# Altium footprint library PCB1.PcbLib: 55 footprints (part 1 of 4)
Each footprint in its own frame and in the unit in brackets; x right, y up, seen from the top. Pads: shape width x height; smd on the part's side, far side on the other; paste and mask are expansions set on the pad; w line width, h text height; cw(c..) or ccw(c..) is an arc to the next point about the centre after c.
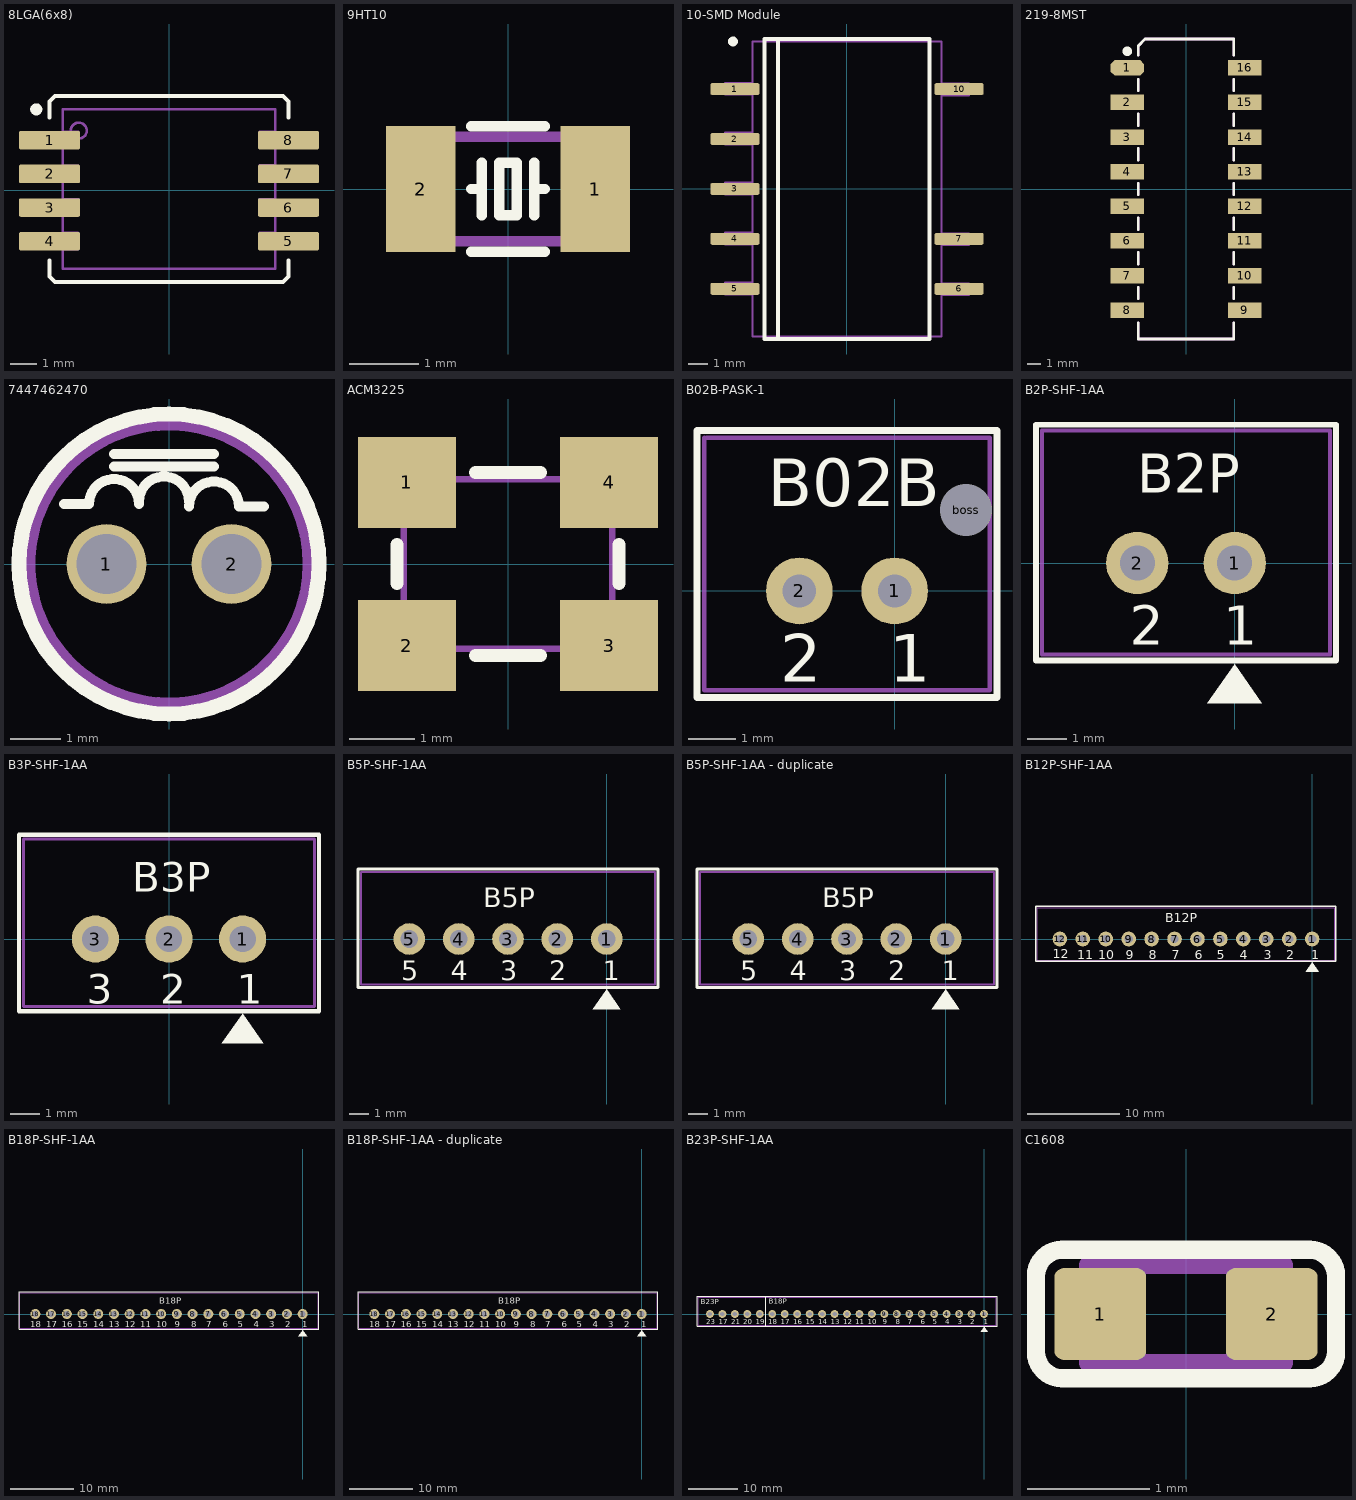
[diagram p0: the footprints below, top view; thin cyan lines are the x and y axes]

## 8LGA(6x8) [mm]
pads (8):
  rrect20% 2.3x0.7 smd mask+0.05: 1(-4.5,1.89) 2(-4.5,0.62) 3(-4.5,-0.65) 4(-4.5,-1.92) 5(4.5,-1.92) 6(4.5,-0.65) 7(4.5,0.62) 8(4.5,1.89)
Top Overlay:
  circle w0.254: c-5,3.05 r0.1
  lines w0.15: -4.5,-2.65 -4.5,-3.25 -4.3,-3.45 2.5,-3.45 4.3,-3.45 4.5,-3.25 4.5,-2.65 ; -4.5,2.75 -4.5,3.35 -4.3,3.55 2.5,3.55 4.3,3.55 4.5,3.35 4.5,2.75
Mechanical 5:
  circle w0.1: c-3.4,2.25 r0.3
  lines w0.1: -4,-2.21 -3.429,-2.21 -3.429,-1.61 -4,-1.61 ; -4,-0.94 -3.429,-0.94 -3.429,-0.34 -4,-0.34 ; -4,0.33 -3.429,0.33 -3.429,0.93 -4,0.93 ; -4,1.6 -3.429,1.6 -3.429,2.2 -4,2.2 ; 4,-2.2 3.429,-2.2 3.429,-1.6 4,-1.6 ; 4,-0.93 3.429,-0.93 3.429,-0.33 4,-0.33 ; 4,0.34 3.429,0.34 3.429,0.94 4,0.94 ; 4,1.61 3.429,1.61 3.429,2.21 4,2.21 ; -4,-2.95 4,-2.95 4,3.05 -4,3.05 -4,-2.95
  text ".designator" at -2.667,4.826 h1.5
Mechanical 13:
  lines w0.1: -4,-2.95 -4,3.05 4,3.05 4,-2.95 -4,-2.95

## 9HT10 [mm]
pads (2):
  rect 1x1.8 smd: 1(1.25,0) 2(-1.25,0)
Top Overlay:
  lines w0.15: -0.525,-0.9 0.525,-0.9 ; -0.525,0 -0.375,0 ; -0.525,0.9 0.525,0.9 ; -0.375,-0.375 -0.375,0.375 ; 0.375,-0.375 0.375,0.375 ; 0.375,0 0.525,0 ; -0.125,-0.375 0.125,-0.375 0.125,0.375 -0.125,0.375 -0.125,-0.375
Mechanical 5:
  lines w0.15: -1.6,-0.75 1.6,-0.75 1.6,0.75 -1.6,0.75 -1.6,-0.75
Mechanical 13:
  lines w0.15: -1.6,-0.75 -1.6,0.75 1.6,0.75 1.6,-0.75 -1.6,-0.75

## 10-SMD Module [mm]
pads (8):
  rrect30% 2.5x0.6 smd: 1(-5.7,5.08) 2(-5.7,2.54) 3(-5.7,0) 4(-5.7,-2.54) 5(-5.7,-5.08) 6(5.7,-5.08) 7(5.7,-2.54) 10(5.7,5.08)
Top Overlay:
  circle w0.25: c-5.8,7.5 r0.125
  lines w0.2: -4.2,-7.63 4.2,-7.63 ; -4.2,-7.62 -4.2,7.62 1.1,7.62 ; -3.5,-7.6 -3.5,7.6 ; 0.95,7.62 4.2,7.62 4.2,-7.62
Mechanical 5:
  lines w0.1: -4.8,-5.36 -6.2,-5.36 -6.2,-4.76 -4.8,-4.76 ; -4.8,-2.82 -6.2,-2.82 -6.2,-2.22 -4.8,-2.22 ; -4.8,-0.28 -6.2,-0.28 -6.2,0.32 -4.8,0.32 ; -4.8,2.26 -6.2,2.26 -6.2,2.86 -4.8,2.86 ; -4.8,4.8 -6.2,4.8 -6.2,5.4 -4.8,5.4 ; 4.8,-5.4 6.2,-5.4 6.2,-4.8 4.8,-4.8 ; 4.8,-2.86 6.2,-2.86 6.2,-2.26 4.8,-2.26 ; 4.8,4.76 6.2,4.76 6.2,5.36 4.8,5.36 ; -4.8,-7.5 -4.8,7.5 4.8,7.5 4.8,-7.5 -4.8,-7.5
  text ".designator" at -4.3,-1 h2
Mechanical 13:
  lines w0.1: -4.8,-7.5 4.8,-7.5 4.8,7.5 -4.8,7.5 -4.8,-7.5

## 219-8MST [mm]
pads (16):
  oct 2.44x1.13 smd: 1(-4.3,8.89)
  rect 2.44x1.13 smd: 2(-4.3,6.35) 3(-4.3,3.81) 4(-4.3,1.27) 5(-4.3,-1.27) 6(-4.3,-3.81) 7(-4.3,-6.35) 8(-4.3,-8.89) 9(4.3,-8.89) 10(4.3,-6.35) 11(4.3,-3.81) 12(4.3,-1.27) 13(4.3,1.27) 14(4.3,3.81) 15(4.3,6.35) 16(4.3,8.89)
Top Overlay:
  circle w0.5: c-4.3,10.1 r0.1
  lines w0.2: -3.5,-9.8 -3.5,-11 3.5,-11 3.5,-9.8 ; -3.5,-8.05 -3.5,-7.2 ; -3.5,-5.51 -3.5,-4.66 ; -3.5,-2.97 -3.5,-2.12 ; -3.5,-0.43 -3.5,0.42 ; -3.5,2.12 -3.5,2.97 ; -3.5,4.66 -3.5,5.51 ; -3.5,7.2 -3.5,8.05 ; -3.5,9.8 -3.5,10.5 -3,11 3.5,11 3.5,9.8 ; 3.5,-8.05 3.5,-7.2 ; 3.5,-5.51 3.5,-4.66 ; 3.5,-2.97 3.5,-2.12 ; 3.5,-0.43 3.5,0.42 ; 3.5,2.12 3.5,2.97 ; 3.5,4.66 3.5,5.51 ; 3.5,7.2 3.5,8.05
Mechanical 5:
  lines w0.2: -3.5,-9.8 -3.5,-11 3.5,-11 3.5,-9.8 ; -3.5,-8.05 -3.5,-7.2 ; -3.5,-5.51 -3.5,-4.66 ; -3.5,-2.97 -3.5,-2.12 ; -3.5,-0.43 -3.5,0.42 ; -3.5,2.12 -3.5,2.97 ; -3.5,4.66 -3.5,5.51 ; -3.5,7.2 -3.5,8.05 ; -3.5,9.8 -3.5,10.5 -3,11 3.5,11 3.5,9.8 ; 3.5,-8.05 3.5,-7.2 ; 3.5,-5.51 3.5,-4.66 ; 3.5,-2.97 3.5,-2.12 ; 3.5,-0.43 3.5,0.42 ; 3.5,2.12 3.5,2.97 ; 3.5,4.66 3.5,5.51 ; 3.5,7.2 3.5,8.05
Mechanical 6:
  lines w0.2: -3.5,-9.8 -3.5,-11 3.5,-11 3.5,-9.8 ; -3.5,-8.05 -3.5,-7.2 ; -3.5,-5.51 -3.5,-4.66 ; -3.5,-2.97 -3.5,-2.12 ; -3.5,-0.43 -3.5,0.42 ; -3.5,2.12 -3.5,2.97 ; -3.5,4.66 -3.5,5.51 ; -3.5,7.2 -3.5,8.05 ; -3.5,9.8 -3.5,10.5 -3,11 3.5,11 3.5,9.8 ; 3.5,-8.05 3.5,-7.2 ; 3.5,-5.51 3.5,-4.66 ; 3.5,-2.97 3.5,-2.12 ; 3.5,-0.43 3.5,0.42 ; 3.5,2.12 3.5,2.97 ; 3.5,4.66 3.5,5.51 ; 3.5,7.2 3.5,8.05
3D body "User Library-smt_dip_sw_8pos.step": height 6.05, standoff 0, extent -5.13,-11.075 5.15,11.025

## 7447462470 [mm]
pads (2):
  round 1.6 hole 1.2: 1(-1.25,0) 2(1.25,0)
Top Overlay:
  lines w0.2: -2.1,1.2 -1.6,1.2 cw(c-1.1,1.2) -0.6,1.2 ; -1.1,1.95 0.9,1.95 ; -1.1,2.2 0.9,2.2 ; -0.6,1.25 cw(c-0.1,1.25) 0.4,1.25 ; 0.4,1.15 cw(c0.9,1.15) 1.4,1.15 1.9,1.15
  lines w0.3: -3,0 ccw(c0,0) 3,0 ccw(c0,0) -3,0
Mechanical 5:
  circle w0.254: c0,0 r2.8

## ACM3225 [mm]
pads (4):
  rect 1.5x1.4 smd: 1(-1.55,1.25) 2(-1.55,-1.25) 3(1.55,-1.25) 4(1.55,1.25)
Top Overlay:
  lines w0.2: -1.7,-0.3 -1.7,0.3 ; -0.5,-1.4 0.5,-1.4 ; -0.5,1.4 0.5,1.4 ; 1.7,-0.3 1.7,0.3
Mechanical 5:
  lines w0.1: -1.6,-1.3 -1.6,1.3 1.6,1.3 1.6,-1.3 -1.6,-1.3
Mechanical 13:
  lines w0.1: -1.6,-1.3 1.6,-1.3 1.6,1.3 -1.6,1.3 -1.6,-1.3

## B02B-PASK-1 [mm]
pads (3):
  round 1.4 hole 0.7: 1(0,0) 2(-2,0)
  round 0.8 hole 1.1 unplated: boss(1.5,1.7)
Top Overlay:
  lines w0.15: -4.15,-2.234 -4.15,3.366 2.15,3.366 2.15,-2.234 -4.15,-2.234
  text "B02B" at -2.667,1.778 h1
  text "2" at -2.397,-1.905 h1
  text "1" at -0.111,-1.905 h1
Mechanical 5:
  lines w0.1: -4,3.216 -4,-2.084 2,-2.084 2,3.216 -3.95,3.216
Mechanical 13:
  lines w0.1: -4,3.216 -4,-2.084 2,-2.084 2,3.216 -3.95,3.216

## B2P-SHF-1AA [mm]
pads (2):
  round 1.6 hole 0.9: 1(0,0) 2(-2.5,0)
Top Overlay:
  region: 0,-2.6 0.7,-3.6 -0.7,-3.6
  lines w0.15: -5.1,-2.5 2.6,-2.5 2.6,3.55 -5.1,3.55 -5.1,-2.5
  text "B2P" at -2.5,1.8 h1
  text "2" at -2.7,-2.1 h1
  text "1" at -0.3,-2.1 h1
Mechanical 5:
  lines w0.1: -4.95,-2.35 2.45,-2.35 2.45,3.4 -4.95,3.4 -4.95,-2.35
Mechanical 13:
  lines w0.1: -4.95,-2.35 -4.95,3.4 2.45,3.4 2.45,-2.35 -4.95,-2.35

## B3P-SHF-1AA [mm]
pads (3):
  round 1.6 hole 0.9: 1(2.5,0) 2(0,0) 3(-2.5,0)
Top Overlay:
  region: 2.5,-2.55 3.2,-3.55 1.8,-3.55
  lines w0.15: -5.1,-2.45 -5.1,3.55 5.1,3.55 5.1,-2.45 -5.1,-2.45
  text "B3P" at -1.25,1.6 h1
  text "3" at -2.8,-2.2 h1
  text "1" at 2.3,-2.2 h1
  text "2" at -0.3,-2.2 h1
Mechanical 5:
  lines w0.1: -4.95,-2.3 4.95,-2.3 4.95,3.4 -4.95,3.4 -4.95,-2.3
Mechanical 13:
  lines w0.1: -4.95,-2.3 -4.95,3.4 4.95,3.4 4.95,-2.3 -4.95,-2.3

## B5P-SHF-1AA [mm]
pads (5):
  round 1.6 hole 0.9: 1(0,0) 2(-2.5,0) 3(-5,0) 4(-7.5,0) 5(-10,0)
Top Overlay:
  region: 0,-2.55 0.7,-3.55 -0.7,-3.55
  lines w0.15: -12.6,-2.45 -12.6,3.55 2.6,3.55 2.6,-2.45 -12.6,-2.45
  text "1" at -0.2,-2.1 h1
  text "5" at -10.4,-2.1 h1
  text "2" at -2.9,-2.1 h1
  text "3" at -5.4,-2.1 h1
  text "4" at -7.9,-2.1 h1
  text "B5P" at -6.25,1.6 h1
Mechanical 5:
  lines w0.1: -12.45,-2.3 2.45,-2.3 2.45,3.4 -12.45,3.4 -12.45,2.3 -12.45,-2.3
Mechanical 13:
  lines w0.1: -12.45,-2.3 -12.45,2.3 -12.45,3.4 2.45,3.4 2.45,-2.3 -12.45,-2.3

## B5P-SHF-1AA - duplicate [mm] "JST3ピンコネクタ"
pads (5):
  round 1.6 hole 0.9: 1(0,0) 2(-2.5,0) 3(-5,0) 4(-7.5,0) 5(-10,0)
Top Overlay:
  region: 0,-2.55 0.7,-3.55 -0.7,-3.55
  lines w0.15: -12.6,-2.45 2.6,-2.45 2.6,3.55 -12.6,3.55 -12.6,-2.45
  text "B5P" at -6.25,1.6 h1
  text "4" at -7.9,-2.1 h1
  text "3" at -5.4,-2.1 h1
  text "2" at -2.9,-2.1 h1
  text "5" at -10.4,-2.1 h1
  text "1" at -0.2,-2.1 h1
Mechanical 5:
  lines w0.1: -12.45,-2.3 -12.45,2.3 -12.45,3.4 2.45,3.4 2.45,-2.3 -12.45,-2.3
Mechanical 13:
  lines w0.1: -12.45,-2.3 2.45,-2.3 2.45,3.4 -12.45,3.4 -12.45,2.3 -12.45,-2.3

## B12P-SHF-1AA [mm]
pads (12):
  round 1.6 hole 0.9: 1(0,0) 2(-2.5,0) 3(-5,0) 4(-7.5,0) 5(-10,0) 6(-12.5,0) 7(-15,0) 8(-17.5,0) 9(-20,0) 10(-22.5,0) 11(-25,0) 12(-27.5,0)
Top Overlay:
  region: 0,-2.55 0.7,-3.55 -0.7,-3.55
  lines w0.15: -30.1,-2.45 -30.1,3.55 2.6,3.55 2.6,-2.45 -30.1,-2.45
  text "1" at -0.1,-2.2 h1
  text "5" at -10.4,-2.2 h1
  text "6" at -12.8,-2.2 h1
  text "9" at -20.3,-2.2 h1
  text "10" at -23.3,-2.2 h1
  text "12" at -28.3,-2.1 h1
  text "2" at -2.8,-2.2 h1
  text "3" at -5.3,-2.2 h1
  text "4" at -7.9,-2.2 h1
  text "7" at -15.3,-2.2 h1
  text "8" at -17.8,-2.2 h1
  text "11" at -25.6,-2.2 h1
  text "B12P" at -16,1.8 h1
Mechanical 5:
  lines w0.1: -29.95,-2.3 -29.95,2.3 -29.95,3.4 -29.7,3.4 2.45,3.4 2.45,-2.3 -29.7,-2.3 -29.95,-2.3
Mechanical 13:
  lines w0.1: -29.95,-2.3 -29.7,-2.3 2.45,-2.3 2.45,3.4 -29.7,3.4 -29.95,3.4 -29.95,2.3 -29.95,-2.3

## B18P-SHF-1AA [mm]
pads (18):
  round 1.6 hole 0.9: 1(0,0) 2(-2.5,0) 3(-5,0) 4(-7.5,0) 5(-10,0) 6(-12.5,0) 7(-15,0) 8(-17.5,0) 9(-20,0) 10(-22.5,0) 11(-25,0) 12(-27.5,0) 13(-30,0) 14(-32.5,0) 15(-35,0) 16(-37.5,0) 17(-40,0) 18(-42.5,0)
Top Overlay:
  region: 0,-2.55 0.7,-3.55 -0.7,-3.55
  lines w0.15: -45.1,-2.45 -40.1,-2.45 2.6,-2.45 2.6,3.55 -45.1,3.55 -45.1,-2.45
  text "14" at -33.3,-2.1 h1
  text "1" at -0.1,-2.1 h1
  text "6" at -12.7,-2.1 h1
  text "5" at -10.3,-2.1 h1
  text "10" at -23.3,-2.1 h1
  text "9" at -20.3,-2.1 h1
  text "13" at -30.8,-2.1 h1
  text "12" at -28.3,-2.1 h1
  text "17" at -40.8,-2.1 h1
  text "16" at -38.3,-2.1 h1
  text "18" at -43.3,-2.1 h1
  text "2" at -2.8,-2.1 h1
  text "3" at -5.3,-2.1 h1
  text "4" at -7.8,-2.1 h1
  text "7" at -15.3,-2.1 h1
  text "8" at -17.7,-2.1 h1
  text "11" at -25.8,-2.1 h1
  text "15" at -35.8,-2.1 h1
  text "B18P" at -22.8,1.6 h1
Mechanical 5:
  lines w0.1: -44.95,-2.3 2.45,-2.3 2.45,3.4 -44.95,3.4 -44.95,2.3 -44.95,-2.3
Mechanical 13:
  lines w0.1: -44.95,-2.3 -44.95,2.3 -44.95,3.4 2.45,3.4 2.45,-2.3 -44.95,-2.3

## B18P-SHF-1AA - duplicate [mm] "JST3ピンコネクタ"
height 7
pads (18):
  round 1.6 hole 0.9: 1(0,0) 2(-2.5,0) 3(-5,0) 4(-7.5,0) 5(-10,0) 6(-12.5,0) 7(-15,0) 8(-17.5,0) 9(-20,0) 10(-22.5,0) 11(-25,0) 12(-27.5,0) 13(-30,0) 14(-32.5,0) 15(-35,0) 16(-37.5,0) 17(-40,0) 18(-42.5,0)
Top Overlay:
  region: 0,-2.55 0.7,-3.55 -0.7,-3.55
  lines w0.15: -45.1,-2.45 -45.1,3.55 2.6,3.55 2.6,-2.45 -40.1,-2.45 -45.1,-2.45
  text "B18P" at -22.8,1.6 h1
  text "15" at -35.8,-2.1 h1
  text "11" at -25.8,-2.1 h1
  text "8" at -17.7,-2.1 h1
  text "7" at -15.3,-2.1 h1
  text "4" at -7.8,-2.1 h1
  text "3" at -5.3,-2.1 h1
  text "2" at -2.8,-2.1 h1
  text "18" at -43.3,-2.1 h1
  text "16" at -38.3,-2.1 h1
  text "17" at -40.8,-2.1 h1
  text "12" at -28.3,-2.1 h1
  text "13" at -30.8,-2.1 h1
  text "9" at -20.3,-2.1 h1
  text "10" at -23.3,-2.1 h1
  text "5" at -10.3,-2.1 h1
  text "6" at -12.7,-2.1 h1
  text "1" at -0.1,-2.1 h1
  text "14" at -33.3,-2.1 h1
Mechanical 5:
  lines w0.1: -44.95,-2.3 -44.95,2.3 -44.95,3.4 2.45,3.4 2.45,-2.3 -44.95,-2.3
Mechanical 13:
  lines w0.1: -44.95,-2.3 2.45,-2.3 2.45,3.4 -44.95,3.4 -44.95,2.3 -44.95,-2.3

## B23P-SHF-1AA [mm]
pads (23):
  round 1.6 hole 0.9: 1(0,0) 2(-2.5,0) 3(-5,0) 4(-7.5,0) 5(-10,0) 6(-12.5,0) 7(-15,0) 8(-17.5,0) 9(-20,0) 10(-22.5,0) 11(-25,0) 12(-27.5,0) 13(-30,0) 14(-32.5,0) 15(-35,0) 16(-37.5,0) 17(-40,0) 18(-42.5,0) 19(-45,0) 20(-47.5,0) 21(-50,0) 22(-52.5,0) 23(-55,0)
Top Overlay:
  region: 0,-2.55 0.7,-3.55 -0.7,-3.55
  lines w0.15: -57.6,-2.45 -57.6,3.55 2.6,3.55 2.6,-2.45 -40.1,-2.45 -57.531,-2.45 ; -43.757,-2.45 -43.757,3.55
  text "B23P" at -56.836,1.981 h1
  text "23" at -55.77,-2.065 h1
  text "17" at -53.27,-2.065 h1
  text "21" at -50.77,-2.065 h1
  text "20" at -48.27,-2.065 h1
  text "19" at -45.77,-2.065 h1
  text "18" at -43.3,-2.1 h1
  text "17" at -40.8,-2.1 h1
  text "16" at -38.3,-2.1 h1
  text "15" at -35.8,-2.1 h1
  text "14" at -33.3,-2.1 h1
  text "1" at -0.1,-2.1 h1
  text "6" at -12.7,-2.1 h1
  text "5" at -10.3,-2.1 h1
  text "10" at -23.3,-2.1 h1
  text "9" at -20.3,-2.1 h1
  text "13" at -30.8,-2.1 h1
  text "12" at -28.3,-2.1 h1
  text "2" at -2.8,-2.1 h1
  text "3" at -5.3,-2.1 h1
  text "4" at -7.8,-2.1 h1
  text "7" at -15.3,-2.1 h1
  text "8" at -17.7,-2.1 h1
  text "11" at -25.8,-2.1 h1
  text "B18P" at -43.18,2.032 h1
Mechanical 5:
  lines w0.1: -57.375,-2.3 2.45,-2.3 2.45,3.4 -44.95,3.4 -57.375,3.4 -57.375,-2.3
Mechanical 13:
  lines w0.1: -57.354,-2.286 -57.354,3.4 2.45,3.4 2.45,-2.3 -44.704,-2.3

## C1608 [mm]
pads (2):
  rrect20% 0.75x0.75 smd mask+0.05: 1(-0.7,0) 2(0.7,0)
Top Overlay:
  lines w0.15: -1.225,-0.31 ccw(c-1.01,-0.31) -1.01,-0.525 1.01,-0.525 ccw(c1.01,-0.31) 1.225,-0.31 1.225,0.31 ccw(c1.01,0.31) 1.01,0.525 -1.01,0.525 ccw(c-1.01,0.31) -1.225,0.31 -1.225,-0.31
Mechanical 5:
  lines w0.1: -1.225,-0.31 ccw(c-1.01,-0.31) -1.01,-0.525 1.01,-0.525 ccw(c1.01,-0.31) 1.225,-0.31 1.225,0.31 ccw(c1.01,0.31) 1.01,0.525 -1.01,0.525 ccw(c-1.01,0.31) -1.225,0.31 -1.225,-0.31
  text ".designator" at -1.1,-0.25 h0.5
Mechanical 13:
  lines w0.15: -0.4,-0.4 -0.4,0.4 ; 0.4,-0.4 0.4,0.4 ; -0.8,-0.4 0.8,-0.4 0.8,0.4 -0.8,0.4 -0.8,-0.4
3D body: height 0.8, standoff 0, extent 0.401,-0.399 0.799,0.399
3D body: height 0.8, standoff 0, extent -0.399,-0.399 0.399,0.399
3D body: height 0.8, standoff 0, extent -0.799,-0.399 -0.401,0.399